# EAGLE library part TPS3808G (library ds_ic_vreg)
TPS3808 Low-Quiescent-Current, Programmable-Delay Supervisory Circuit
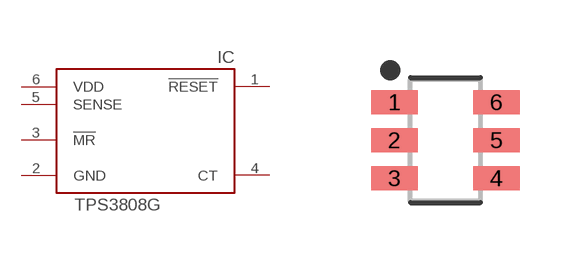
[diagram p12: symbol with the pads of SOT95P280X145-6N; footprint SOT95P280X145-6N]

Designator prefix IC

## TPS3808G33DBVR (DATASHEET: https://www.ti.com/lit/ds/symlink/tps3808.pdf?HQS=dis-dk-null-digikeymode-dsf-pf-null-wwe&ts=1760177813117&ref_url=https%253A%252F%252Fwww.ti.com%252Fgeneral%252Fdocs%252Fsuppproductinfo.tsp%253FdistId%253D10%2526gotoUrl%253Dhttps%253A%252F%252Fwww.ti.com%252Flit%252Fgpn%252Ftps3808; DESCRIPTION: -40℃~+125℃@(Tj) 1 1.7V~6.5V 2.4uA 20us 405mV Active Low No Open Drain Voltage Monitor Yes SOT-23-6 Supervisor and Reset ICs ROHS; HQ_PART: IC0037885; LCSC_PART: C43698; MANUFACTURER: Texas Instruments; MPN: TPS3808G33DBVR; ROHS: YES; VALUE: TPS3808G33DBVR)  [SOT95P280X145-6N]
1  !RESET  out
2  GND  pwr
3  !MR  in
4  CT  out
5  SENSE  in
6  VDD  pwr

## TPS3808G01DBVR (DATASHEET: https://www.ti.com/lit/ds/symlink/tps3808.pdf?HQS=dis-dk-null-digikeymode-dsf-pf-null-wwe&ts=1760177813117&ref_url=https%253A%252F%252Fwww.ti.com%252Fgeneral%252Fdocs%252Fsuppproductinfo.tsp%253FdistId%253D10%2526gotoUrl%253Dhttps%253A%252F%252Fwww.ti.com%252Flit%252Fgpn%252Ftps3808; DESCRIPTION: -40℃~+125℃@(Tj) 1 1.7V~6.5V 2.4uA 20us 405mV Active Low No Open Drain Voltage Monitor Yes SOT-23-6 Supervisor and Reset ICs ROHS; HQ_PART: IC0037887; LCSC_PART: C19653; MANUFACTURER: Texas Instruments; MPN: TPS3808G01DBVR; ROHS: YES; VALUE: TPS3808G01DBVR)  [SOT95P280X145-6N]
Pads as for SOT95P280X145-6N

## TPS3808G18DBVR (DATASHEET: https://www.ti.com/lit/ds/symlink/tps3808.pdf?HQS=dis-dk-null-digikeymode-dsf-pf-null-wwe&ts=1760177813117&ref_url=https%253A%252F%252Fwww.ti.com%252Fgeneral%252Fdocs%252Fsuppproductinfo.tsp%253FdistId%253D10%2526gotoUrl%253Dhttps%253A%252F%252Fwww.ti.com%252Flit%252Fgpn%252Ftps3808; DESCRIPTION: -40℃~+125℃@(Tj) 1 1.7V~6.5V 2.4uA 20us 405mV Active Low No Open Drain Voltage Monitor Yes SOT-23-6 Supervisor and Reset ICs ROHS; HQ_PART: IC0037894; LCSC_PART: C129330; MANUFACTURER: Texas Instruments; MPN: TPS3808G18DBVR; ROHS: YES; VALUE: TPS3808G18DBVR)  [SOT95P280X145-6N]
Pads as for SOT95P280X145-6N

## TPS3808G12DBVR (DATASHEET: https://www.ti.com/lit/ds/symlink/tps3808.pdf?HQS=dis-dk-null-digikeymode-dsf-pf-null-wwe&ts=1760177813117&ref_url=https%253A%252F%252Fwww.ti.com%252Fgeneral%252Fdocs%252Fsuppproductinfo.tsp%253FdistId%253D10%2526gotoUrl%253Dhttps%253A%252F%252Fwww.ti.com%252Flit%252Fgpn%252Ftps3808; DESCRIPTION: -40℃~+125℃@(Tj) 1 1.7V~6.5V 2.4uA 20us 405mV Active Low No Open Drain Voltage Monitor Yes SOT-23-6 Supervisor and Reset ICs ROHS; HQ_PART: IC0037889; LCSC_PART: C130063; MANUFACTURER: Texas Instruments; MPN: TPS3808G12DBVR; ROHS: YES; VALUE: TPS3808G12DBVR)  [SOT95P280X145-6N]
Pads as for SOT95P280X145-6N

## TPS3808G125DBVR (DATASHEET: https://www.ti.com/lit/ds/symlink/tps3808.pdf?HQS=dis-dk-null-digikeymode-dsf-pf-null-wwe&ts=1760177813117&ref_url=https%253A%252F%252Fwww.ti.com%252Fgeneral%252Fdocs%252Fsuppproductinfo.tsp%253FdistId%253D10%2526gotoUrl%253Dhttps%253A%252F%252Fwww.ti.com%252Flit%252Fgpn%252Ftps3808; DESCRIPTION: -40℃~+125℃@(Tj) 1 1.7V~6.5V 2.4uA 20us 405mV Active Low No Open Drain Voltage Monitor Yes SOT-23-6 Supervisor and Reset ICs ROHS; LCSC_PART: C2877618; MANUFACTURER: Texas Instruments; MPN: TPS3808G125DBVR; ROHS: YES; VALUE: TPS3808G125DBVR)  [SOT95P280X145-6N]
Pads as for SOT95P280X145-6N

## TPS3808G15DBVR (DATASHEET: https://www.ti.com/lit/ds/symlink/tps3808.pdf?HQS=dis-dk-null-digikeymode-dsf-pf-null-wwe&ts=1760177813117&ref_url=https%253A%252F%252Fwww.ti.com%252Fgeneral%252Fdocs%252Fsuppproductinfo.tsp%253FdistId%253D10%2526gotoUrl%253Dhttps%253A%252F%252Fwww.ti.com%252Flit%252Fgpn%252Ftps3808; DESCRIPTION: -40℃~+125℃@(Tj) 1 1.7V~6.5V 2.4uA 20us 405mV Active Low No Open Drain Voltage Monitor Yes SOT-23-6 Supervisor and Reset ICs ROHS; LCSC_PART: C702167; MANUFACTURER: Texas Instruments; MPN: TPS3808G15DBVR; ROHS: YES; VALUE: TPS3808G15DBVR)  [SOT95P280X145-6N]
Pads as for SOT95P280X145-6N

## TPS3808G19DBVR (DATASHEET: https://www.ti.com/lit/ds/symlink/tps3808.pdf?HQS=dis-dk-null-digikeymode-dsf-pf-null-wwe&ts=1760177813117&ref_url=https%253A%252F%252Fwww.ti.com%252Fgeneral%252Fdocs%252Fsuppproductinfo.tsp%253FdistId%253D10%2526gotoUrl%253Dhttps%253A%252F%252Fwww.ti.com%252Flit%252Fgpn%252Ftps3808; DESCRIPTION: -40℃~+125℃@(Tj) 1 1.7V~6.5V 2.4uA 20us 405mV Active Low No Open Drain Voltage Monitor Yes SOT-23-6 Supervisor and Reset ICs ROHS; HQ_PART: IC0041179; LCSC_PART: C702169; MANUFACTURER: Texas Instruments; MPN: TPS3808G19DBVR; ROHS: YES; VALUE: TPS3808G19DBVR)  [SOT95P280X145-6N]
Pads as for SOT95P280X145-6N

## TPS3808G25DBVR (DATASHEET: https://www.ti.com/lit/ds/symlink/tps3808.pdf?HQS=dis-dk-null-digikeymode-dsf-pf-null-wwe&ts=1760177813117&ref_url=https%253A%252F%252Fwww.ti.com%252Fgeneral%252Fdocs%252Fsuppproductinfo.tsp%253FdistId%253D10%2526gotoUrl%253Dhttps%253A%252F%252Fwww.ti.com%252Flit%252Fgpn%252Ftps3808; DESCRIPTION: -40℃~+125℃@(Tj) 1 1.7V~6.5V 2.4uA 20us 405mV Active Low No Open Drain Voltage Monitor Yes SOT-23-6 Supervisor and Reset ICs ROHS; LCSC_PART: C527559; MANUFACTURER: Texas Instruments; MPN: TPS3808G25DBVR; ROHS: YES; VALUE: TPS3808G25DBVR)  [SOT95P280X145-6N]
Pads as for SOT95P280X145-6N

## TPS3808G30DBVR (DATASHEET: https://www.ti.com/lit/ds/symlink/tps3808.pdf?HQS=dis-dk-null-digikeymode-dsf-pf-null-wwe&ts=1760177813117&ref_url=https%253A%252F%252Fwww.ti.com%252Fgeneral%252Fdocs%252Fsuppproductinfo.tsp%253FdistId%253D10%2526gotoUrl%253Dhttps%253A%252F%252Fwww.ti.com%252Flit%252Fgpn%252Ftps3808; DESCRIPTION: -40℃~+125℃@(Tj) 1 1.7V~6.5V 2.4uA 20us 405mV Active Low No Open Drain Voltage Monitor Yes SOT-23-6 Supervisor and Reset ICs ROHS; HQ_PART: IC0037891; LCSC_PART: C189211; MANUFACTURER: Texas Instruments; MPN: TPS3808G30DBVR; ROHS: YES; VALUE: TPS3808G30DBVR)  [SOT95P280X145-6N]
Pads as for SOT95P280X145-6N

## TPS3808G50DBVR (DATASHEET: https://www.ti.com/lit/ds/symlink/tps3808.pdf?HQS=dis-dk-null-digikeymode-dsf-pf-null-wwe&ts=1760177813117&ref_url=https%253A%252F%252Fwww.ti.com%252Fgeneral%252Fdocs%252Fsuppproductinfo.tsp%253FdistId%253D10%2526gotoUrl%253Dhttps%253A%252F%252Fwww.ti.com%252Flit%252Fgpn%252Ftps3808; DESCRIPTION: -40℃~+125℃@(Tj) 1 1.7V~6.5V 2.4uA 20us 405mV Active Low No Open Drain Voltage Monitor Yes SOT-23-6 Supervisor and Reset ICs ROHS; HQ_PART: IC0037892; LCSC_PART: C134123; MANUFACTURER: Texas Instruments; MPN: TPS3808G50DBVR; ROHS: YES; VALUE: TPS3808G50DBVR)  [SOT95P280X145-6N]
Pads as for SOT95P280X145-6N

## Footprint SOT95P280X145-6N (pad centres in mm)
6-SOT23, 0.95 mm pitch, 2.80 mm span, 2.92 X 1.63 X 1.45 mm body 6-pin SOT23 package with 0.95 mm pitch, 2.80 mm span with body size 2.92 X 1.63 X 1.45 mm
smd 1.165 x 0.597: 1 -1.275,0.95; 2 -1.275,0; 3 -1.275,-0.95; 4 1.275,-0.95; 5 1.275,0; 6 1.275,0.95